# Altium schematic symbol library RPS45-1-T OS.Schlib: 1 symbol
Pins are listed as number, name and electrical type; pins without a type are passive.

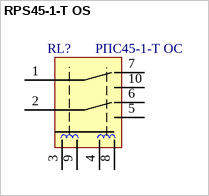
[diagram p0: symbol RPS45-1-T OS]

## RPS45-1-T OS
designator RL?  Наименование: РПС45-1-Т ОС  (hidden comment: RPS45-1-T OS)
Назначение: Реле
footprint РПС-45-1
pins: 1 11, 2 22, 3 B, 4 C, 5 23, 6 21, 7 12, 8 D, 9 A, 10 13